# Altium footprint library SplitHE_Int.PcbLib: 36 footprints (part 3 of 3)
Each footprint in its own frame and in the unit in brackets; x right, y up, seen from the top. Pads: shape width x height; smd on the part's side, far side on the other; paste and mask are expansions set on the pad; w line width, h text height; cw(c..) or ccw(c..) is an arc to the next point about the centre after c.
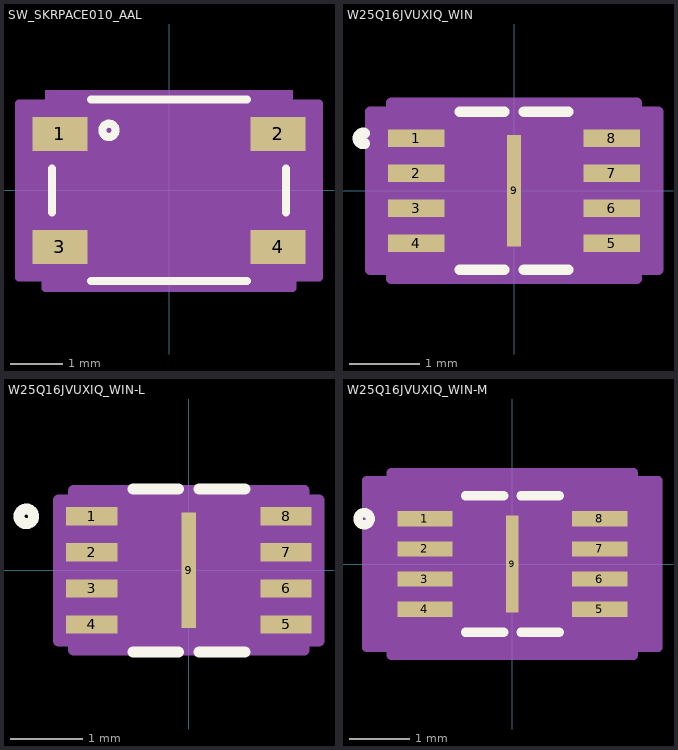
[diagram p2: the footprints below, top view; thin cyan lines are the x and y axes]

## SW_SKRPACE010_AAL [mm]
pads (4):
  rect 1.05x0.65 smd paste+0 mask+0: 1(-2.075,1.075) 2(2.075,1.075) 3(-2.075,-1.075) 4(2.075,-1.075)
Top Overlay:
  circle w0.152: c-1.143,1.143 r0.127
  lines w0.152: -2.227,-0.417 -2.227,0.417 ; -1.488,-1.727 1.488,-1.727 ; -1.488,1.727 1.488,1.727 ; 2.227,-0.417 2.227,0.417
Mechanical 13:
  circle w0: c-1.55,1.075 r0.076
  lines w0: -0.305,1.6 ccw(c0,1.6) 0.305,1.6
  lines w0.025: -2.1,-1.6 2.1,-1.6 2.1,1.6 -2.1,1.6 -2.1,-1.6
Mechanical 15:
  region: -2.354,-1.654 -2.854,-1.654 -2.854,1.654 -2.354,1.654 -2.354,1.908 2.354,1.908 2.354,1.654 2.854,1.654 2.854,-1.654 2.354,-1.654 2.354,-1.854 -2.354,-1.854
  lines w0.152: -2.854,-1.654 -2.854,1.654 -2.354,1.654 -2.354,0.762 2.354,0.762 2.354,1.654 2.854,1.654 2.854,-1.654 2.354,-1.654 2.354,-1.854 -2.354,-1.854 -2.354,-1.654 -2.854,-1.654
3D body "SW_SKRPACE010_AAL.step": height 2.5, standoff 0, extent -2.1,-1.6 2.1,1.6

## W25Q16JVUXIQ_WIN [mil]
pads (9):
  rect 32x10 smd paste+0 mask+0: 1(-55.06,29.53) 2(-55.06,9.84) 3(-55.06,-9.84) 4(-55.06,-29.53) 5(55.06,-29.53) 6(55.06,-9.84) 7(55.06,9.84) 8(55.06,29.53)
  rect 8x63 smd paste+0 mask+0: 9(0,0)
Top Overlay:
  lines w6: -84.16,26.62 cw(c-84.9,29.53) -84.16,32.43 ; -30.56,-44.5 -5.62,-44.5 ; -30.56,44.5 -5.62,44.5 ; 5.62,-44.5 30.56,-44.5 ; 5.62,44.5 30.56,44.5
Mechanical 13:
  circle w6: c-39.06,29.53 r3
  lines w0: -12,39.5 ccw(c0,39.5) 12,39.5
  lines w1: -59,-39.5 59,-39.5 59,39.5 -59,39.5 -59,-39.5
Mechanical 15:
  region: -69,-44.53 -81.06,-44.53 -81.06,44.53 -69,44.53 -69,49.5 69,49.5 69,44.53 81.06,44.53 81.06,-44.53 69,-44.53 69,-49.5 -69,-49.5
  lines w6: -81.06,-44.53 -81.06,44.53 -69,44.53 -69,49.5 69,49.5 69,44.53 81.06,44.53 81.06,-44.53 69,-44.53 69,-49.5 -69,-49.5 -69,-44.53 -81.06,-44.53
3D body "W25Q16JVUXIQ_WIN.step": height 24.09, standoff 0, extent -59.06,-39.49 59.06,39.49

## W25Q16JVUXIQ_WIN-L [mil]
pads (9):
  rect 28x10 smd paste+0 mask+0: 1(-53.06,29.53) 2(-53.06,9.84) 3(-53.06,-9.84) 4(-53.06,-29.53) 5(53.06,-29.53) 6(53.06,-9.84) 7(53.06,9.84) 8(53.06,29.53)
  rect 8x63 smd paste+0 mask+0: 9(0,0)
Top Overlay:
  circle w6: c-88.74,29.53 r4
  lines w6: -30.56,-44.5 -5.62,-44.5 ; -30.56,44.5 -5.62,44.5 ; 5.62,-44.5 30.56,-44.5 ; 5.62,44.5 30.56,44.5
Mechanical 13:
  circle w0: c-39.06,29.53 r3
  lines w0: -12,39.5 ccw(c0,39.5) 12,39.5
  lines w1: -59,-39.5 -59,39.5 59,39.5 59,-39.5 -59,-39.5
Mechanical 15:
  region: -63,-38.53 -71.06,-38.53 -71.06,38.53 -63,38.53 -63,43.5 63,43.5 63,38.53 71.06,38.53 71.06,-38.53 63,-38.53 63,-43.5 -63,-43.5
  lines w6: -71.06,-38.53 -63,-38.53 -63,-43.5 63,-43.5 63,-38.53 71.06,-38.53 71.06,38.53 63,38.53 63,43.5 -63,43.5 -63,38.53 -71.06,38.53 -71.06,-38.53
3D body "W25Q16JVUXIQ_WIN.step": height 24.09, standoff 0, extent -59.06,-39.49 59.06,39.49

## W25Q16JVUXIQ_WIN-M [mil]
pads (9):
  rect 36x10 smd paste+0 mask+0: 1(-57.06,29.53) 2(-57.06,9.84) 3(-57.06,-9.84) 4(-57.06,-29.53) 5(57.06,-29.53) 6(57.06,-9.84) 7(57.06,9.84) 8(57.06,29.53)
  rect 8x63 smd paste+0 mask+0: 9(0,0)
Top Overlay:
  circle w6: c-96.74,29.53 r4
  lines w6: -30.56,-44.5 -5.62,-44.5 ; -30.56,44.5 -5.62,44.5 ; 5.62,-44.5 30.56,-44.5 ; 5.62,44.5 30.56,44.5
Mechanical 13:
  circle w0: c-39.06,29.53 r3
  lines w0: -12,39.5 ccw(c0,39.5) 12,39.5
  lines w1: -59,-39.5 59,-39.5 59,39.5 -59,39.5 -59,-39.5
Mechanical 15:
  region: -79,-54.53 -95.06,-54.53 -95.06,54.53 -79,54.53 -79,59.5 79,59.5 79,54.53 95.06,54.53 95.06,-54.53 79,-54.53 79,-59.5 -79,-59.5
  lines w6: -95.06,-54.53 -95.06,54.53 -79,54.53 -79,59.5 79,59.5 79,54.53 95.06,54.53 95.06,-54.53 79,-54.53 79,-59.5 -79,-59.5 -79,-54.53 -95.06,-54.53
3D body "W25Q16JVUXIQ_WIN.step": height 24.09, standoff 0, extent -59.06,-39.49 59.06,39.49